# Altium schematic symbol library SCH - DRIVER - LED - TI TPS60241_DGK_8.SchLib: 1 symbol
Pins are listed as number, name and electrical type; pins without a type are passive.

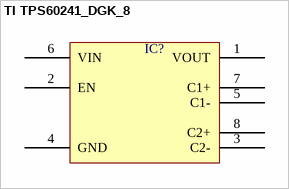
[diagram p0: symbol TI TPS60241_DGK_8]

## TI TPS60241_DGK_8
designator IC?  (value not drawn)
pins: 1 VOUT, 2 EN, 3 C2-, 4 GND, 5 C1-, 6 VIN, 7 C1+, 8 C2+